# EAGLE library part M03X2 (library LB-Connectors)
2x3 .1" header. Shrouded, with keying- CONN-10681 SMT- CONN-11415 Pogo pins- HW-11044
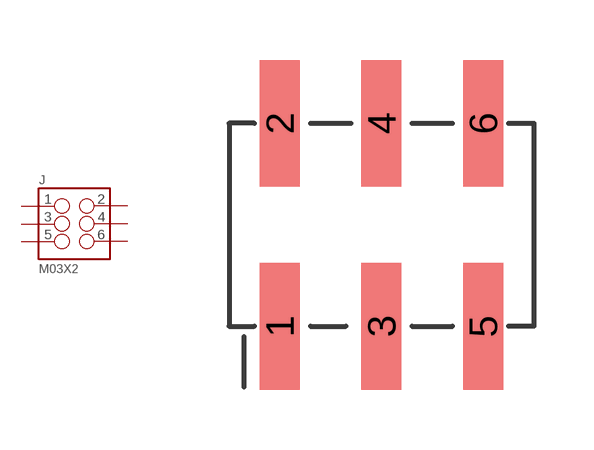
[diagram p0: symbol with the pads of 2X3_SMD_MALE; footprint 2X3_SMD_MALE]

Designator prefix J

## M03X2SMD_MALE (PROD_ID: CONN-11415)  [2X3_SMD_MALE]
1  1
2  2
3  3
4  4
5  5
6  6

## Footprint 2X3_SMD_MALE (pad centres in mm)
4UCON 15881 Male .1" spaced SMT Keying posts into board
smd 1 x 3.17: 1 -2.54,-2.54; 2 -2.54,2.54; 3 0,-2.54; 4 0,2.54; 5 2.54,-2.54; 6 2.54,2.54